# Altium footprint library midori-sensor.PCBLIB: 1 footprints
Each footprint in its own frame and in the unit in brackets; x right, y up, seen from the top. Pads: shape width x height; smd on the part's side, far side on the other; paste and mask are expansions set on the pad; w line width, h text height; cw(c..) or ccw(c..) is an arc to the next point about the centre after c.
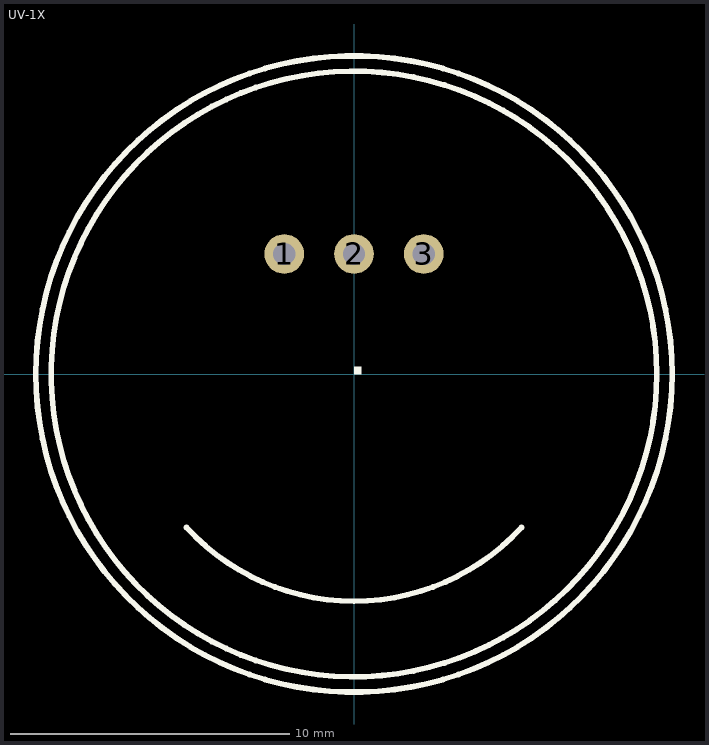
[diagram p0: the footprint, top view; thin cyan lines are the x and y axes]

## UV-1X [mil]
pads (3):
  round 56 hole 31.5: 1(-98.43,169.29) 2(0,169.29) 3(98.43,169.29)
Top Overlay:
  circle w8: c0,0 r448.82
  circle w8: c0,0 r427.17
  region: 0,0 10,0 10,10 0,10
  lines w8: -236.22,-216.54 ccw(c0,-0.01) 236.22,-216.54